# Altium footprint library CustomParts.PcbLib: 113 footprints (part 5 of 8)
Each footprint in its own frame and in the unit in brackets; x right, y up, seen from the top. Pads: shape width x height; smd on the part's side, far side on the other; paste and mask are expansions set on the pad; w line width, h text height; cw(c..) or ccw(c..) is an arc to the next point about the centre after c.
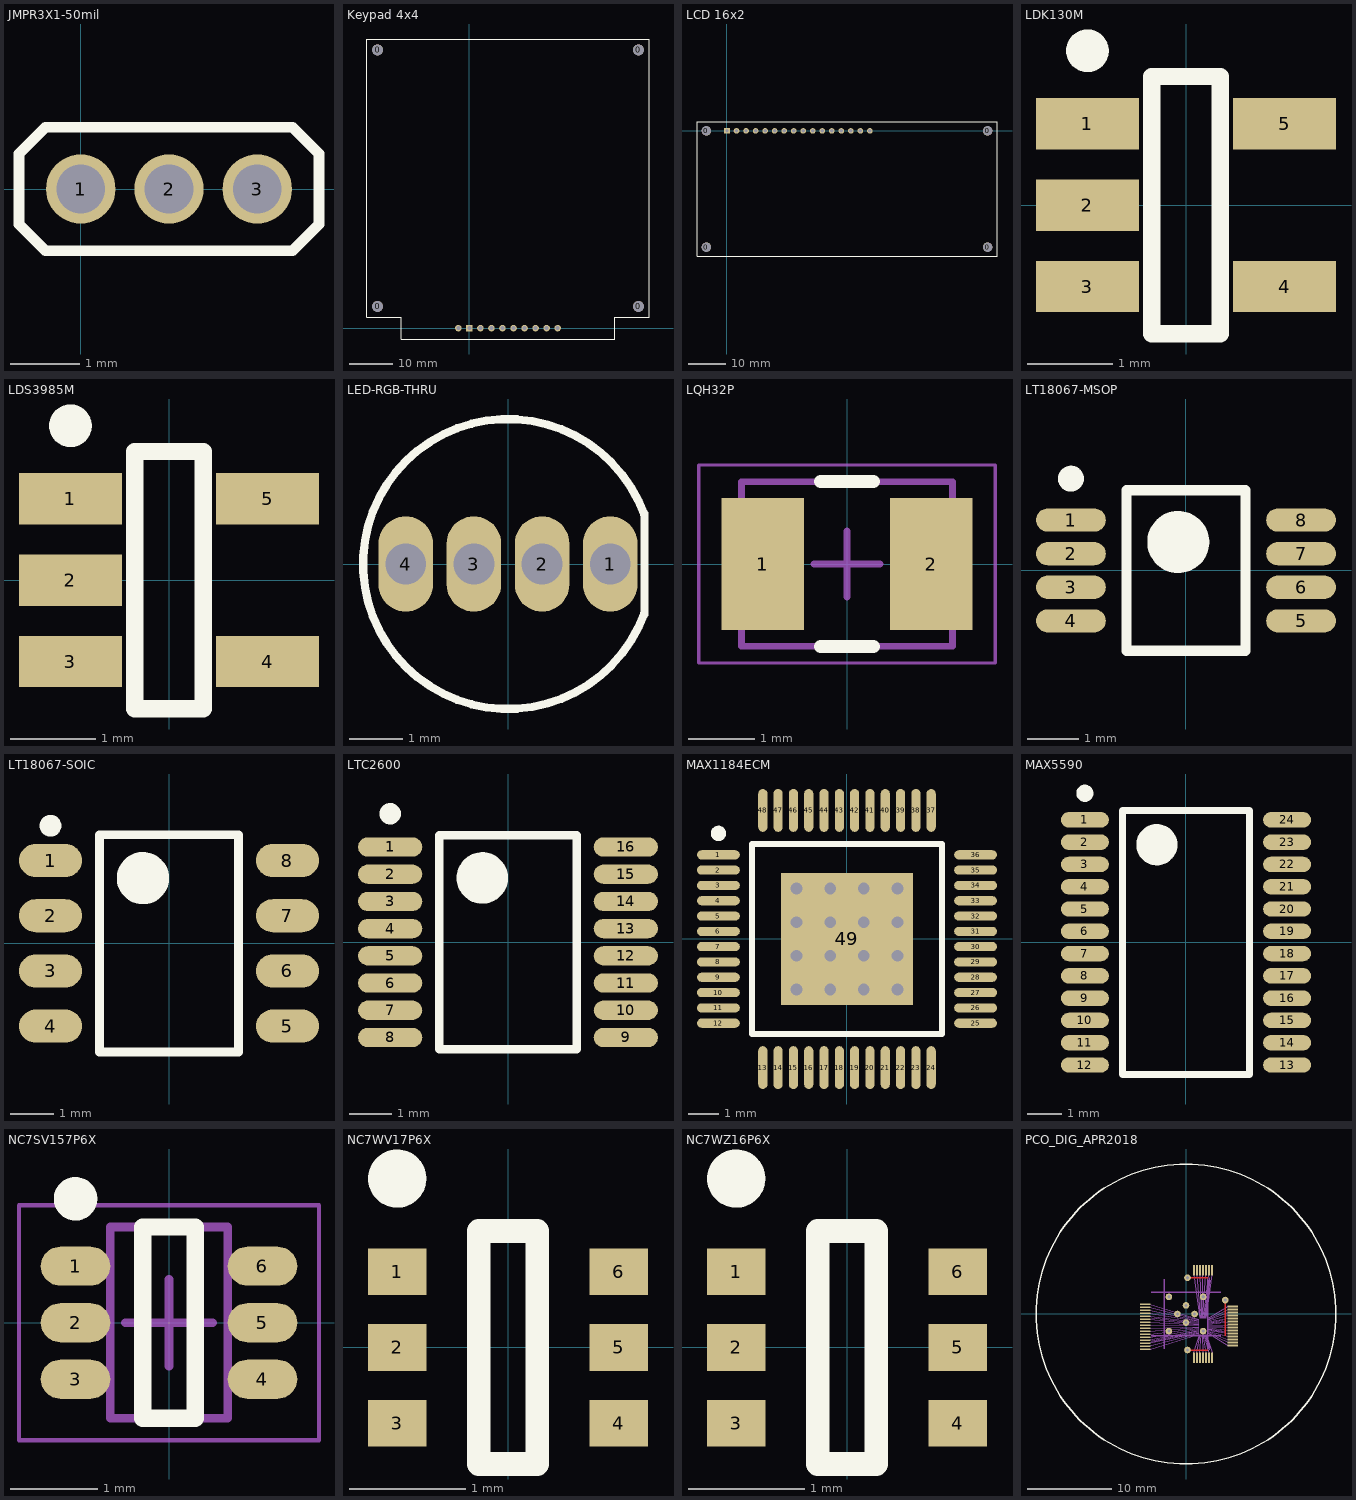
[diagram p4: the footprints below, top view; thin cyan lines are the x and y axes]

## JMPR3X1-50mil [mm] "Jumper, 3-Position, 50 mil pitch"
pads (3):
  round 1 hole 0.7: 1(0,0) 2(1.27,0) 3(2.54,0)
Top Overlay:
  lines w0.152: -0.889,-0.508 -0.889,0.508 -0.508,0.889 3.048,0.889 3.429,0.508 3.429,-0.508 3.048,-0.889 -0.508,-0.889 -0.889,-0.508

## Keypad 4x4 [mm] "AK-1604-N-BWB 16-key Keypad"
pads (14):
  round 2.5 hole 2.5: 0(-21.11,5) 0(-21.11,64) 0(38.89,5) 0(38.89,64)
  round 1.5 hole 0.9: 0(-2.54,0) 0(20.32,0) 2(2.54,0) 3(5.08,0) 4(7.62,0) 5(10.16,0) 6(12.7,0) 7(15.24,0) 8(17.78,0)
  rect 1.5x1.5 hole 0.9: 1(0,0)
Top Overlay:
  lines w0.254: -23.61,2.5 -23.61,66.5 41.39,66.5 41.39,2.5 33.39,2.5 33.39,-2.5 -15.61,-2.5 -15.61,2.5 -23.61,2.5

## LCD 16x2 [mm] "Sparkfun ADM1602K-FSY-FBS-3.3V LCD Display"
pads (20):
  round 2.5 hole 2.5: 0(-5.5,-31) 0(-5.5,0) 0(69.5,-31) 0(69.5,0)
  rect 1.5x1.5 hole 0.9: 1(0,0)
  round 1.5 hole 0.9: 2(2.54,0) 3(5.08,0) 4(7.62,0) 5(10.16,0) 6(12.7,0) 7(15.24,0) 8(17.78,0) 9(20.32,0) 10(22.86,0) 11(25.4,0) 12(27.94,0) 13(30.48,0) 14(33.02,0) 15(35.56,0) 16(38.1,0)
Top Overlay:
  lines w0.254: -8,-33.5 72,-33.5 72,2.5 -8,2.5 -8,-33.5

## LDK130M [mm] "Altium Generated SOT-23-5L"
height 1.15
pads (5):
  rect 1.2x0.6 smd: 1(-1.15,0.95) 2(-1.15,0) 3(-1.15,-0.95) 4(1.15,-0.95) 5(1.15,0.95)
Top Overlay:
  circle w0.25: c-1.15,1.8 r0.125
  lines w0.203: -0.4,-1.5 -0.4,1.5 0.4,1.5 0.4,-1.5 -0.4,-1.5
3D body: height 1.15, standoff 0.15, extent -0.8,-1.475 0.8,1.475

## LDS3985M [mm] "Altium Generated SOT-23-5"
height 1.45
pads (5):
  rect 1.2x0.6 smd: 1(-1.15,0.95) 2(-1.15,0) 3(-1.15,-0.95) 4(1.15,-0.95) 5(1.15,0.95)
Top Overlay:
  circle w0.25: c-1.15,1.8 r0.125
  lines w0.203: -0.4,-1.5 -0.4,1.5 0.4,1.5 0.4,-1.5 -0.4,-1.5
3D body: height 1.45, standoff 0.15, extent -0.8,-1.475 0.8,1.475

## LED-RGB-THRU [mil]
pads (4):
  oval 40x70 hole 30 mask+5: 1(75,0) 2(25,0) 3(-25,0) 4(-75,0)
Top Overlay:
  lines w6: 99.89,-36.36 cw(c0.01,0) 99.89,36.36 ; 100,-37 100,37

## LQH32P [mm] "Precision Wire Wound Inductor, 2-Leads, Body 3.20x2.50mm, IPC Medium Density"
height 1.7
pads (2):
  rect 1.25x2 smd: 1(-1.275,0) 2(1.275,0)
Top Overlay:
  lines w0.2: -0.4,-1.25 0.4,-1.25 ; -0.4,1.25 0.4,1.25
Mechanical 13:
  lines w0.1: -1.6,-1.25 -1.6,1.25 1.6,1.25 1.6,-1.25 -1.6,-1.25
Mechanical 15:
  lines w0.05: -2.25,-1.5 -2.25,1.5 2.25,1.5 2.25,-1.5 -2.25,-1.5
  lines w0.1: -0.5,0 0.5,0 ; 0,-0.5 0,0.5
3D body "LQH32P2.step": height 1.8, standoff 0, extent -1.7,-1.25 1.7,1.25

## LT18067-MSOP [mm] "ALtium Generated 8-MSOP (3.0mm Width)"
height 1.1
pads (8):
  oval 1.35x0.45 smd: 1(-2.225,0.975) 2(-2.225,0.325) 3(-2.225,-0.325) 4(-2.225,-0.975) 5(2.225,-0.975) 6(2.225,-0.325) 7(2.225,0.325) 8(2.225,0.975)
Top Overlay:
  circle w0.25: c-2.225,1.775 r0.125
  circle w0.6: c-0.15,0.55 r0.3
  lines w0.2: -1.15,-1.55 -1.15,1.55 1.15,1.55 1.15,-1.55 -1.15,-1.55
3D body: height 1.1, standoff 0.1, extent -1.55,-1.55 1.55,1.55

## LT18067-SOIC [mm] "ALtium Generated 8-SOIC (3.90mm Width)"
height 1.76
pads (8):
  oval 1.45x0.762 smd: 1(-2.725,1.905) 2(-2.725,0.635) 3(-2.725,-0.635) 4(-2.725,-1.905) 5(2.725,-1.905) 6(2.725,-0.635) 7(2.725,0.635) 8(2.725,1.905)
Top Overlay:
  circle w0.6: c-0.6,1.5 r0.3
  circle w0.25: c-2.725,2.705 r0.125
  lines w0.2: -1.6,-2.5 1.6,-2.5 1.6,2.5 -1.6,2.5 -1.6,-2.5
3D body: height 1.76, standoff 0.1, extent -2,-2.5 2,2.5

## LTC2600 [mm] "ALtium Generated 16-SSOP (3.90mm Width)"
height 1.35
pads (16):
  oval 1.5x0.45 smd: 1(-2.75,2.222) 2(-2.75,1.587) 3(-2.75,0.953) 4(-2.75,0.318) 5(-2.75,-0.318) 6(-2.75,-0.953) 7(-2.75,-1.587) 8(-2.75,-2.222) 9(2.75,-2.222) 10(2.75,-1.587) 11(2.75,-0.953) 12(2.75,-0.318) 13(2.75,0.318) 14(2.75,0.953) 15(2.75,1.587) 16(2.75,2.222)
Top Overlay:
  circle w0.25: c-2.75,2.997 r0.125
  circle w0.6: c-0.6,1.5 r0.3
  lines w0.2: -1.6,-2.5 -1.6,2.5 1.6,2.5 1.6,-2.5 -1.6,-2.5
3D body: height 1.35, standoff 0.1, extent -2,-2.5 2,2.5

## MAX1184ECM [mm] "Altium Generated 48-TSQFP 7.00x7.00mm Body) with Thermal Pad"
height 1.2
pads (49):
  oval 1.4x0.3 smd: 1(-4.2,2.75) 2(-4.2,2.25) 3(-4.2,1.75) 4(-4.2,1.25) 5(-4.2,0.75) 6(-4.2,0.25) 7(-4.2,-0.25) 8(-4.2,-0.75) 9(-4.2,-1.25) 10(-4.2,-1.75) 11(-4.2,-2.25) 12(-4.2,-2.75) 25(4.2,-2.75) 26(4.2,-2.25) 27(4.2,-1.75) 28(4.2,-1.25) 29(4.2,-0.75) 30(4.2,-0.25) 31(4.2,0.25) 32(4.2,0.75) 33(4.2,1.25) 34(4.2,1.75) 35(4.2,2.25) 36(4.2,2.75)
  oval 0.3x1.4 smd: 13(-2.75,-4.2) 14(-2.25,-4.2) 15(-1.75,-4.2) 16(-1.25,-4.2) 17(-0.75,-4.2) 18(-0.25,-4.2) 19(0.25,-4.2) 20(0.75,-4.2) 21(1.25,-4.2) 22(1.75,-4.2) 23(2.25,-4.2) 24(2.75,-4.2) 37(2.75,4.2) 38(2.25,4.2) 39(1.75,4.2) 40(1.25,4.2) 41(0.75,4.2) 42(0.25,4.2) 43(-0.25,4.2) 44(-0.75,4.2) 45(-1.25,4.2) 46(-1.75,4.2) 47(-2.25,4.2) 48(-2.75,4.2)
  rect 4.3x4.3 smd: 49(0,0)
via -1.65,1.65 diameter 0.711 hole 0.381
via -0.55,1.65 diameter 0.711 hole 0.381
via 0.55,1.65 diameter 0.711 hole 0.381
via 1.65,1.65 diameter 0.711 hole 0.381
via -1.65,0.55 diameter 0.711 hole 0.381
via -0.55,0.55 diameter 0.711 hole 0.381
via 0.55,0.55 diameter 0.711 hole 0.381
via 1.65,0.55 diameter 0.711 hole 0.381
via -1.65,-0.55 diameter 0.711 hole 0.381
via -0.55,-0.55 diameter 0.711 hole 0.381
via 0.55,-0.55 diameter 0.711 hole 0.381
via 1.65,-0.55 diameter 0.711 hole 0.381
via -1.65,-1.65 diameter 0.711 hole 0.381
via -0.55,-1.65 diameter 0.711 hole 0.381
via 0.55,-1.65 diameter 0.711 hole 0.381
via 1.65,-1.65 diameter 0.711 hole 0.381
Top Overlay:
  circle w0.25: c-4.2,3.45 r0.125
  lines w0.2: -3.1,-3.1 -3.1,3.1 3.1,3.1 3.1,-3.1 -3.1,-3.1
3D body: height 1.2, standoff 0.05, extent -3.5,-3.5 3.5,3.5

## MAX5590 [mm] "ALtium Generated 24-TSSOP (4.40mm Width)"
height 1.1
pads (24):
  oval 1.4x0.45 smd: 1(-2.95,3.575) 2(-2.95,2.925) 3(-2.95,2.275) 4(-2.95,1.625) 5(-2.95,0.975) 6(-2.95,0.325) 7(-2.95,-0.325) 8(-2.95,-0.975) 9(-2.95,-1.625) 10(-2.95,-2.275) 11(-2.95,-2.925) 12(-2.95,-3.575) 13(2.95,-3.575) 14(2.95,-2.925) 15(2.95,-2.275) 16(2.95,-1.625) 17(2.95,-0.975) 18(2.95,-0.325) 19(2.95,0.325) 20(2.95,0.975) 21(2.95,1.625) 22(2.95,2.275) 23(2.95,2.925) 24(2.95,3.575)
Top Overlay:
  circle w0.25: c-2.95,4.35 r0.125
  circle w0.6: c-0.85,2.85 r0.3
  lines w0.203: -1.85,-3.85 -1.85,3.85 1.85,3.85 1.85,-3.85 -1.85,-3.85
3D body: height 1.1, standoff 0.05, extent -2.25,-3.85 2.25,3.85

## NC7SV157P6X [mm] "Altium Generated 6-lead SOT23 (2.00x2.10mm Body)"
height 1.1
pads (6):
  oval 0.8x0.45 smd: 1(-1.075,0.65) 2(-1.075,0) 3(-1.075,-0.65) 4(1.075,-0.65) 5(1.075,0) 6(1.075,0.65)
Top Overlay:
  circle w0.25: c-1.075,1.425 r0.125
  lines w0.2: -0.3,-1.1 0.3,-1.1 0.3,1.1 -0.3,1.1 -0.3,-1.1
Mechanical 13:
  lines w0.1: -0.675,-1.1 -0.675,1.1 0.675,1.1 0.675,-1.1 -0.675,-1.1
Mechanical 15:
  lines w0.05: -1.725,-1.35 -1.725,1.35 1.725,1.35 1.725,-1.35 -1.725,-1.35
  lines w0.1: -0.5,0 0.5,0 ; 0,-0.5 0,0.5
3D body: height 1.1, standoff 0.1, extent -0.675,-1.1 0.675,1.1

## NC7WV17P6X [mm] "Altium Generated SC-70-6 (1.25mm Wide)"
height 0.95
pads (6):
  rect 0.5x0.4 smd mask+0.127: 1(-0.95,0.65) 2(-0.95,0) 3(-0.95,-0.65) 4(0.95,-0.65) 5(0.95,0) 6(0.95,0.65)
Top Overlay:
  circle w0.25: c-0.95,1.45 r0.125
  lines w0.203: -0.25,-1 -0.25,1 0.25,1 0.25,-1 -0.25,-1
3D body: height 0.95, standoff 0, extent -0.625,-1 0.625,1

## NC7WZ16P6X [mm] "Altium Generated SC-70-6 (1.25mm Wide)"
height 0.95
pads (6):
  rect 0.5x0.4 smd mask+0.127: 1(-0.95,0.65) 2(-0.95,0) 3(-0.95,-0.65) 4(0.95,-0.65) 5(0.95,0) 6(0.95,0.65)
Top Overlay:
  circle w0.25: c-0.95,1.45 r0.125
  lines w0.203: -0.25,-1 0.25,-1 0.25,1 -0.25,1 -0.25,-1
3D body: height 0.95, standoff 0, extent -0.625,-1 0.625,1

## PCO_DIG_APR2018 [mm]
pads (111):
  rrect50% 1.27x0.203 smd mask+0: 1(-4.826,1.168)
  rrect50% 0.08x0.08 on Mech13 paste+0 mask+0: 1(1.5,-0.6) 2(1.5,-0.7) 3(1.5,-0.8) 4(1.5,-0.9) 5(1.5,-1) 6(1.5,-1.1) 7(1.5,-1.2) 8(1.5,-1.3) 9(1.5,-1.4) 10(1.5,-1.5) 11(1.5,-1.6) 12(1.5,-1.7) 13(1.5,-1.8) 14(1.5,-1.9) 15(1.5,-2) 16(1.5,-2.1) 17(1.5,-2.2) 18(1.5,-2.3) 19(1.5,-2.4) 20(1.6,-2.5) 21(1.7,-2.5) 22(1.8,-2.5) 23(1.9,-2.5) 24(2,-2.5) 25(2.1,-2.5) 26(2.2,-2.5) 27(2.3,-2.5) 28(2.4,-2.5) 29(2.602,-2.324) 30(2.602,-2.224) 31(2.602,-2.124) 32(2.602,-2.024) 33(2.602,-1.924) 34(2.602,-1.824) 35(2.602,-1.724) 36(2.602,-1.624) 37(2.602,-1.524) 38(2.602,-1.424) 39(2.602,-1.324) 40(2.602,-1.224) 41(2.602,-1.124) 42(2.602,-1.024) 43(2.602,-0.924) 44(2.602,-0.824) 45(2.602,-0.724) 46(2.602,-0.624) 47(2.602,-0.524) 48(2.4,-0.5) 49(2.3,-0.5) 50(2.2,-0.5) 51(2.1,-0.5) 52(2,-0.5) 53(1.9,-0.5) 54(1.8,-0.5) 55(1.7,-0.5) 56(1.6,-0.5)
  rrect50% 1.27x0.203 smd paste+0 mask+0: 2(-4.826,0.813) 3(-4.826,0.457) 4(-4.826,0.102) 5(-4.826,-0.254) 7(-4.826,-0.61) 8(-4.826,-0.965) 9(-4.826,-1.321) 10(-4.826,-1.676) 11(-4.826,-2.032) 12(-4.826,-2.388) 13(-4.826,-2.743) 14(-4.826,-3.099) 17(-4.826,-3.454) 18(-4.826,-3.81) 19(-4.826,-4.166) 29(5.537,-3.734) 30(5.537,-3.378) 31(5.537,-3.023) 32(5.537,-2.667) 33(5.537,-2.311) 36(5.537,-1.956) 37(5.537,-1.6) 39(5.537,-1.245) 40(5.537,-0.889) 43(5.537,-0.533) 44(5.537,-0.178) 45(5.537,0.178) 46(5.537,0.533) 47(5.537,0.889)
  round 0.787 hole 0.381: 6(-2.032,2.032) 15(-1.016,0) 16(-2.032,-2.032) 26(0.178,-4.267) 27(0,-1.016) 34(2.032,-2.032) 38(1.016,0) 41(4.648,1.651) 42(2.032,2.032) 49(0,1.016) 50(0.178,4.293)
  rrect50% 0.203x1.27 smd paste+0 mask+0: 20(0.94,-5.182) 21(1.295,-5.182) 22(1.651,-5.182) 23(2.007,-5.182) 24(2.362,-5.182) 25(2.718,-5.182) 28(3.073,-5.182) 48(3.073,5.182) 51(2.718,5.182) 52(2.362,5.182) 53(2.007,5.182) 54(1.651,5.182) 55(1.295,5.182) 56(0.94,5.182)
Top Layer:
  lines w0.203: 0.178,-4.293 2.565,-4.293 ; 0.178,4.293 2.565,4.293 ; 4.648,-2.565 4.648,1.626
Top Overlay:
  circle w0.152: c0,0 r17.78
Top Solder:
  rectangle: -5.461,-5.817 6.172,5.817
Mechanical 13:
  lines w0.152: -4.1,-2.6 4.1,-2.6 ; -4.1,2.6 4.1,2.6 ; -2.6,-4.1 -2.6,4.1 ; 2.6,-4.1 2.6,4.1
Mechanical 16:
  lines w0.038: -4.343,-2.032 1.499,-1.6 ; -4.343,-1.676 1.499,-1.499 ; -4.318,-3.785 1.499,-2.311 ; -4.318,-2.743 1.499,-1.803 ; -4.318,-2.388 1.499,-1.702 ; -4.318,-1.321 1.499,-1.397 ; -4.318,-0.965 1.499,-1.295 ; -4.318,0.102 1.499,-0.889 ; -4.318,0.457 1.499,-0.813 ; -4.318,0.813 1.499,-0.711 ; -4.318,1.143 1.499,-0.61 ; -4.293,-3.073 1.499,-1.905 ; -4.293,-0.61 1.499,-1.194 ; -4.267,-4.166 1.499,-2.388 ; -4.267,-3.429 1.499,-2.21 ; -4.267,-0.254 1.499,-0.991 ; -4.089,-0.432 1.499,-1.092 ; -4.064,-3.302 1.499,-2.134 ; -4.064,-3.175 1.499,-2.007 ; 0.94,-4.623 1.6,-2.489 ; 0.94,4.648 1.6,-0.483 ; 1.295,-4.623 1.702,-2.489 ; 1.295,4.648 1.702,-0.483 ; 1.651,-4.623 1.803,-2.489 ; 1.651,4.648 1.803,-0.483 ; 1.905,-2.489 2.007,-4.623 ; 1.905,-0.483 2.007,4.648 ; 2.007,-2.489 2.362,-4.597 ; 2.007,-0.483 2.362,4.674 ; 2.108,-2.489 2.718,-4.623 ; 2.108,-0.483 2.718,4.674 ; 2.21,-2.489 2.769,-4.267 ; 2.21,-0.483 2.794,4.293 ; 2.311,-2.489 2.794,-4.039 ; 2.311,-0.483 2.896,4.013 ; 2.413,-2.489 3.099,-4.623 ; 2.413,-0.483 3.099,4.623 ; 2.616,-2.311 4.978,-3.759 ; 2.616,-2.21 4.978,-3.378 ; 2.616,-2.108 4.978,-3.048 ; 2.616,-2.032 4.978,-2.667 ; 2.616,-1.93 4.978,-2.311 ; 2.616,-1.829 4.293,-2.083 ; 2.616,-1.727 4.648,-2.032 ; 2.616,-1.626 4.978,-1.956 ; 2.616,-1.524 4.978,-1.6 ; 2.616,-1.422 4.293,-1.448 ; 2.616,-1.321 4.978,-1.27 ; 2.616,-1.219 4.978,-0.914 ; 2.616,-1.118 4.674,-0.838 ; 2.616,-1.016 4.318,-0.762 ; 2.616,-0.914 4.978,-0.533 ; 2.616,-0.813 4.978,-0.178 ; 2.616,-0.711 4.978,0.178 ; 2.616,-0.61 4.978,0.533 ; 2.616,-0.533 4.978,0.889